# EAGLE library part SI473X-D60 (library Radio Projekt)
AudioChip .dev
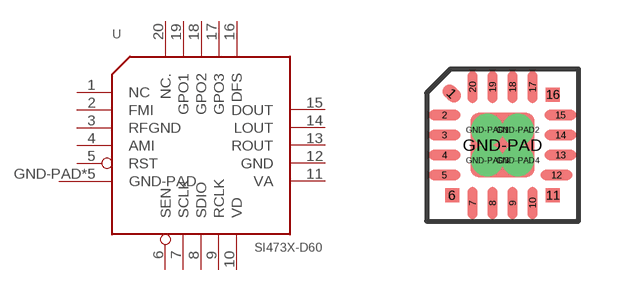
[diagram p4: symbol with the pads of SI473X-D60; footprint SI473X-D60]

Designator prefix -

## SI473X-D60 (SI473X-D60: IC1)  [SI473X-D60]
1  NC
2  FMI
3  RFGND
4  AMI
5  RST
6  SEN
7  SCLK
8  SDIO
9  RCLK
10  VD
11  VA
12  GND
13  ROUT
14  LOUT
15  DOUT
16  DFS
17  GPO3
18  GPO2
19  GPO1
20  NC.
GND-PAD  GND-PAD
GND-PAD1  GND-PAD
GND-PAD2  GND-PAD
GND-PAD3  GND-PAD
GND-PAD4  GND-PAD

## Footprint SI473X-D60 (pad centres in mm)
AudioChip .pac
smd 0.5 x 0.35 rotated 135: 1 -1.271,1.286
smd 0.8 x 0.25: 2 -1.45,0.75; 3 -1.45,0.25; 4 -1.45,-0.25; 5 -1.45,-0.75; 12 1.35,-0.75; 13 1.45,-0.25; 14 1.45,0.25; 15 1.45,0.75
smd 0.35 x 0.35: 6 -1.26,-1.26; 11 1.26,-1.26; 16 1.26,1.26
smd 0.25 x 0.8: 7 -0.75,-1.45; 8 -0.25,-1.45; 9 0.25,-1.45; 10 0.75,-1.45; 17 0.75,1.45; 18 0.25,1.45; 19 -0.25,1.45; 20 -0.75,1.45
smd 1.6 x 1.6: GND-PAD 0,0
drill 0.3 pad 0.35: GND-PAD1 -0.381,0.381; GND-PAD2 0.381,0.381; GND-PAD3 -0.381,-0.381; GND-PAD4 0.381,-0.381